# EAGLE library part AE45131AH-720 (library saw-filters-narrowband)
AE45131AH-720 Параметр Ед. изм. Мин. значение Тип. значение Макс. значение Центральная частота МГц 719 720 721 Минимальное вносимое затухание дБ - 2.1 2.5 Полоса среза по уровню -2 дБ МГц 19 19.3 - Полоса среза по уровню -35 дБ МГц - 91 - Неравномерность АЧХ дБ - 1 2 Групповое время задержки нс - - - Гарантированное затухание дБ - 45 - Температурный диапазон °C -55 22 +85 Материал подложки - - Танталат лития 36 -
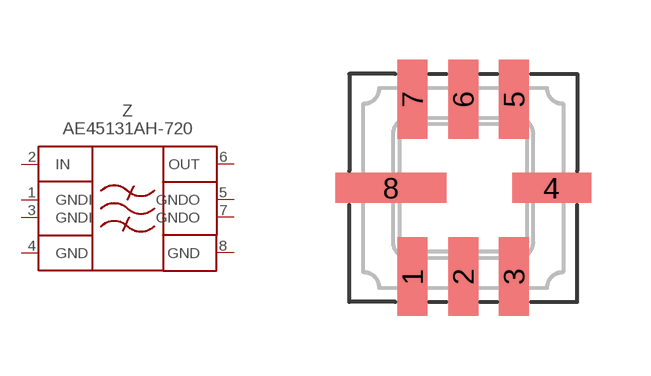
[diagram p153: symbol with the pads of QCC8; footprint QCC8]

Designator prefix Z

## AE45131AH-720  [QCC8]
1  GNDI  pas
2  IN  pas
3  GNDI  pas
4  GND  pwr
5  GNDO  pas
6  OUT  pas
7  GNDO  pas
8  GND  pwr

## Footprint QCC8 (pad centres in mm)
smd 0.75 x 1.97: 1 -1.27,-2.215; 2 0,-2.215; 3 1.27,-2.215; 5 1.27,2.215; 6 0,2.215; 7 -1.27,2.215
smd 1.97 x 0.75: 4 2.215,0
smd 2.78 x 0.75: 8 -1.81,0